# Altium footprint library PowerFLAT 5x6.PcbLib: 1 footprints
Each footprint in its own frame and in the unit in brackets; x right, y up, seen from the top. Pads: shape width x height; smd on the part's side, far side on the other; paste and mask are expansions set on the pad; w line width, h text height; cw(c..) or ccw(c..) is an arc to the next point about the centre after c.
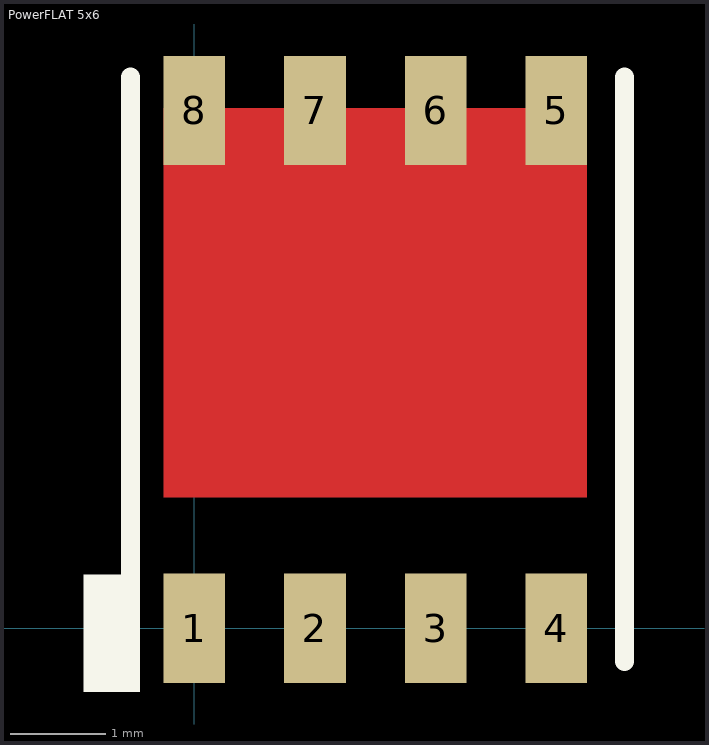
[diagram p0: the footprint, top view; thin cyan lines are the x and y axes]

## PowerFLAT 5x6 [mm]
height 1
pads (8):
  rect 0.65x1.15 smd: 1(0,0) 2(1.27,0) 3(2.54,0) 4(3.81,0) 5(3.81,5.45) 6(2.54,5.45) 7(1.27,5.45) 8(0,5.45)
Top Layer:
  rectangle: -0.325,1.375 4.135,5.475
Top Overlay:
  rectangle: -1.167,-0.673 -0.572,0.564
  lines w0.2: -0.672,-0.35 -0.672,5.801 ; 4.528,-0.35 4.528,5.802
3D body "User Library-Power_Flat_5x6.step": height 0.95, standoff -0.04, extent -0.672,-0.349 4.528,5.801